# Altium schematic symbol library LED(YELLOW, 2V, 20mA, SMD-0603).SchLib: 1 symbol
Pins are listed as number, name and electrical type; pins without a type are passive.

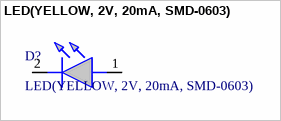
[diagram p0: symbol LED(YELLOW, 2V, 20mA, SMD-0603)]

## LED(YELLOW, 2V, 20mA, SMD-0603)
designator D?
Manufacturer: Würth Elektronik; Manufacturer_PN: 150060YS75003; Datasheet: https://www.we-online.com/components/products/datasheet/150060YS75003.pdf; Digikey_Link: https://www.digikey.com/en/products/detail/w%C3%BCrth-elektronik/150060YS75003/16022101
footprint LED_GREEN(2V, 20mA, SMD-0603)
pins: 1 A, 2 K